# Altium footprint library BOARDFEATURES.PcbLib: 2 footprints
Each footprint in its own frame and in the unit in brackets; x right, y up, seen from the top. Pads: shape width x height; smd on the part's side, far side on the other; paste and mask are expansions set on the pad; w line width, h text height; cw(c..) or ccw(c..) is an arc to the next point about the centre after c.
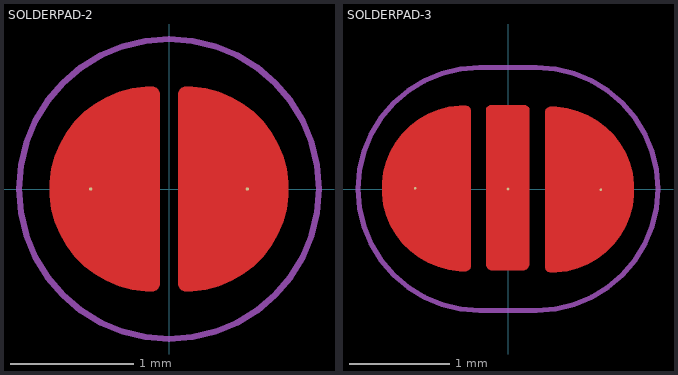
[diagram p0: the footprints below, top view; thin cyan lines are the x and y axes]

## SOLDERPAD-2 [mil]
pads (2):
  round 1 smd paste-99999 mask+2: 1(-25,0) 2(25,0)
Top Layer:
  region: -38.09,0 -38.09,-2.14 -37.53,-6.39 -36.42,-10.53 -34.78,-14.48 -32.64,-18.19 -30.03,-21.59 -27,-24.62 -23.6,-27.23 -19.89,-29.37 -15.94,-31.01 -11.8,-32.12 -7.55,-32.68 -5.41,-32.68 -4.93,-32.68 -4.04,-32.31 -3.37,-31.63 -3,-30.75 -3,-30.27 -3,30.27 -3,30.75 -3.37,31.63 -4.04,32.31 -4.93,32.68 -5.41,32.68 -7.55,32.68 -11.8,32.12 -15.94,31.01 -19.89,29.37 -23.6,27.23 -27,24.62 -30.03,21.59 -32.64,18.19 -34.78,14.48 -36.42,10.53 -37.53,6.39 -38.09,2.14
  region: 38.09,0 38.09,-2.14 37.53,-6.39 36.42,-10.53 34.78,-14.48 32.64,-18.19 30.03,-21.59 27,-24.62 23.6,-27.23 19.89,-29.37 15.94,-31.01 11.8,-32.12 7.55,-32.68 5.41,-32.68 4.93,-32.68 4.04,-32.31 3.37,-31.63 3,-30.75 3,-30.27 3,30.27 3,30.75 3.37,31.63 4.04,32.31 4.93,32.68 5.41,32.68 7.55,32.68 11.8,32.12 15.94,31.01 19.89,29.37 23.6,27.23 27,24.62 30.03,21.59 32.64,18.19 34.78,14.48 36.42,10.53 37.53,6.39 38.09,2.14
Top Solder:
  rectangle: -5,-34 5,34
Top Courtyard:
  circle w1.97: c0,0 r47.9

## SOLDERPAD-3 [mil]
pads (3):
  round 1 smd paste-99999 mask+2: 1(-36.62,0.25) 2(0,0) 3(36.62,-0.25)
Top Layer:
  region: -8.62,31.25 -8.62,31.6 -8.35,32.24 -7.86,32.73 -7.21,33 -6.86,33 6.63,33 6.98,33 7.62,32.73 8.12,32.24 8.38,31.6 8.38,31.25 8.38,-29.62 8.38,-30.09 8.02,-30.97 7.35,-31.64 6.47,-32 6,-32 -6.37,-32 -6.81,-32 -7.64,-31.66 -8.27,-31.03 -8.62,-30.2 -8.62,-29.75
  region: -49.7,0.25 -49.7,-1.89 -49.14,-6.14 -48.03,-10.28 -46.39,-14.24 -44.25,-17.95 -41.65,-21.34 -38.62,-24.37 -35.22,-26.98 -31.51,-29.12 -27.55,-30.76 -23.41,-31.87 -19.17,-32.43 -17.02,-32.43 -16.55,-32.43 -15.66,-32.06 -14.98,-31.38 -14.62,-30.5 -14.62,-30.02 -14.62,30.52 -14.62,31 -14.98,31.88 -15.66,32.56 -16.55,32.93 -17.02,32.93 -19.17,32.93 -23.41,32.37 -27.55,31.26 -31.51,29.62 -35.22,27.48 -38.62,24.87 -41.65,21.84 -44.25,18.44 -46.39,14.73 -48.03,10.77 -49.14,6.64 -49.7,2.39
  region: 49.7,-0.25 49.7,-2.39 49.14,-6.64 48.03,-10.77 46.39,-14.73 44.25,-18.44 41.65,-21.84 38.62,-24.87 35.22,-27.48 31.51,-29.62 27.55,-31.26 23.41,-32.37 19.17,-32.93 17.02,-32.93 16.55,-32.93 15.66,-32.56 14.98,-31.88 14.62,-31 14.62,-30.52 14.62,30.02 14.62,30.5 14.98,31.38 15.66,32.06 16.55,32.43 17.02,32.43 19.17,32.43 23.41,31.87 27.55,30.76 31.51,29.12 35.22,26.98 38.62,24.37 41.65,21.34 44.25,17.95 46.39,14.24 48.03,10.28 49.14,6.14 49.7,1.89
Top Solder:
  rectangle: -16.62,-33.75 17,34.25
Top Courtyard:
  lines w1.97: -11.28,-47.9 cw(c-11.28,0) -11.28,47.9 11.28,47.9 cw(c11.28,0) 11.28,-47.9 -11.28,-47.9